# Altium integrated library Resistor 1210.IntLib: 5 symbols
Pins are listed as number, name and electrical type; pins without a type are passive.

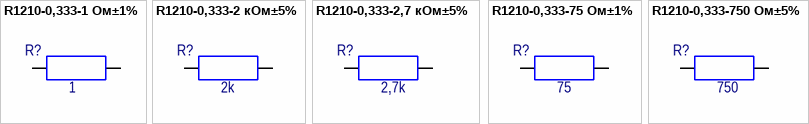
[diagram p0: symbols R1210-0,333-1 Ом±1% to R1210-0,333-750 Ом±5%]

## R1210-0,333-1 Ом±1%
designator R?  value 1
RES SMD 1 OHM 1% 1/2W 1210; Manufacturer: Vishay Dale; ManufacturerPartNumber: CRCW12101R00FK; Group: 9130; RegulationProcent: 10; TypeName: Резистор; Distributor: Digi-key; DistributorPartNumber: 541-1.00AAACT-ND; LatestRevisionDate: 14.07.2015; Library: Resistor 1210; Package: 3225 [1210]; Published: 14.07.2015; Publisher: Stanchik A
footprint RESC3225N [1210] (Chip Resistor, Body 3.2x2.5mm, IPC Medium Density)
pins: 1, 2

## R1210-0,333-2 кОм±5%
designator R?  value 2k
RES SMD 2K OHM 5% 1/2W 1210; Manufacturer: Vishay Dale; ManufacturerPartNumber: CRCW12102K00JN; Group: 9130; RegulationProcent: 10; TypeName: Резистор; Distributor: Digi-key; DistributorPartNumber: 541-2.0KVCT-ND; LatestRevisionDate: 15.11.2016; Library: Resistor 1210; Package: 3225 [1210]; Published: 15.11.2016; Publisher: Stanchik A
footprint RESC3225N [1210] (Chip Resistor, Body 3.2x2.5mm, IPC Medium Density)
pins: 1, 2

## R1210-0,333-2,7 кОм±5%
designator R?  value 2,7k
RES SMD 2.7K OHM 5% 1/2W 1210; Manufacturer: Vishay Dale; ManufacturerPartNumber: CRCW12102K70JN; Group: 9130; RegulationProcent: 10; TypeName: Резистор; Distributor: Digi-key; DistributorPartNumber: 541-2.7KVCT-ND; LatestRevisionDate: 13.06.2017; Library: Resistor 1210; Package: 3225 [1210]; Published: 13.06.2017; Publisher: Stanchik A
footprint RESC3225N [1210] (Chip Resistor, Body 3.2x2.5mm, IPC Medium Density)
pins: 1, 2

## R1210-0,333-75 Ом±1%
designator R?  value 75
RES SMD 75 OHM 1% 1/2W 1210; Manufacturer: Vishay Dale; ManufacturerPartNumber: CRCW121075R0FK; Group: 9130; RegulationProcent: 10; TypeName: Резистор; Distributor: Digi-key; DistributorPartNumber: 541-75.0AATR-ND; LatestRevisionDate: 31.08.2017; Library: Resistor 1210; Package: 3225 [1210]; Published: 31.08.2017; Publisher: Stanchik A
footprint RESC3225N [1210] (Chip Resistor, Body 3.2x2.5mm, IPC Medium Density)
pins: 1, 2

## R1210-0,333-750 Ом±5%
designator R?  value 750
RES SMD 750 OHM 5% 1/2W 1210; Manufacturer: Vishay Dale; ManufacturerPartNumber: CRCW1210750RJN; Group: 9130; RegulationProcent: 10; TypeName: Резистор; Distributor: Digi-key; DistributorPartNumber: 541-750VCT-ND; LatestRevisionDate: 12.07.2017; Library: Resistor 1210; Package: 3225 [1210]; Published: 12.07.2017; Publisher: Stanchik A
footprint RESC3225N [1210] (Chip Resistor, Body 3.2x2.5mm, IPC Medium Density)
pins: 1, 2